# Altium schematic symbol library Regulators.SchLib: 5 symbols
Pins are listed as number, name and electrical type; pins without a type are passive.

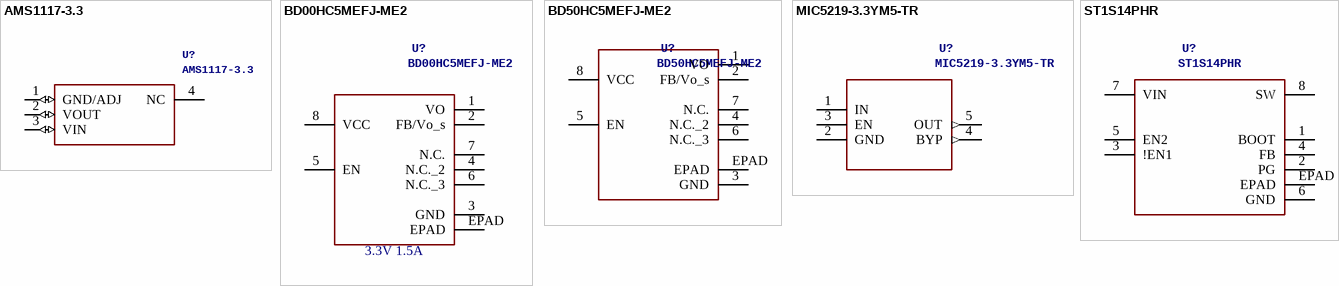
[diagram p0: symbols AMS1117-3.3 to ST1S14PHR]

## AMS1117-3.3
designator U?
LDO Step-down In5V Out3.3V; Manufacturer: Advanced; SupplierNumber: *; PartNumber: AMS1117-3.3; SuppliersPartNumber: C6186; Link: https://jlcpcb.com/partdetail/Puolop-AMS1117_33/C6186; Package: SOT-223
footprint REG_SOT-223
pins: 1 GND/ADJ (io), 2 VOUT (io), 3 VIN (io), 4 NC

## BD00HC5MEFJ-ME2
designator U?  value 3.3V 1.5A
LDO 5Vin 3V3Out 1.5A; Manufacturer: ROHM Semiconductor; PartNumber: BD00HC5MEFJ-ME2; SupplierNumber: BD00HC5MEFJ-ME2TR-ND; Link: https://www.digikey.ca/en/products/detail/rohm-semiconductor/BD00HC5MEFJ-ME2/4625492?s=N4IgTCBcDaIEYBMAMSAWBjArAWwKYDMArAWjwgF0BfIA; Package: 8-SOIC; SuppliersPartNumber: *
footprint REG_SOP8_SOIC8_EPAD
pins: 1 VO, 2 FB/Vo_s, 3 GND, 4 N.C._2, 5 EN, 6 N.C._3, 7 N.C., 8 VCC (power), EPAD

## BD50HC5MEFJ-ME2
designator U?
LDO 8Vin 5Vout 1.5A; Manufacturer: ROHM Semiconductor; Value: LDO 5V; PartNumber: BD50HC5MEFJ-ME2; SupplierNumber: BD50HC5MEFJ-ME2TR-ND; SuppliersPartNumber: *; Package: 8-SOIC
footprint REG_SOP8_SOIC8_EPAD
pins: 1 VO, 2 FB/Vo_s, 3 GND, 4 N.C._2, 5 EN, 6 N.C._3, 7 N.C., 8 VCC (power), EPAD

## MIC5219-3.3YM5-TR
designator U?
LDO 3.3V 500mA; Manufacturer: Microchip; Link: https://www.digikey.ca/en/products/detail/microchip-technology/MIC5219-3-3YM5-TR/771750; SuppliersPartNumber: C29613; SupplierNumber: 576-1281-2-ND; PartNumber: MIC5219-3.3YM5-TR; Package: SOT-23-5; Value: LDO
footprint REG_SOT-23-5
pins: 1 IN, 2 GND (power), 3 EN, 4 BYP (out), 5 OUT (out)

## ST1S14PHR
designator U?
Switching Step-down In5.5V~48V Out3A; Mfr_Name: STMicroelectronics; DeviceSetName: ST1S14PHR; Manufacturer_Part_Number: ST1S14PHR; Value: Switching Step-down; Link: https://www.digikey.ca/en/products/detail/stmicroelectronics/ST1S14PHR/2469146?s=N4IgTCBcDaIMoBUCMckBYAKAJASiAugL5A; Package: HSOP-8; PartNumber: ST1S14PHR; SupplierPartNumber: 497-10816-2-ND; SuppliersPartNumber: C84130
footprint REG_SOP8_SOIC8_EPAD
pins: 1 BOOT, 2 PG, 3 !EN1, 4 FB, 5 EN2, 6 GND, 7 VIN (power), 8 SW, EPAD